# Altium footprint library buffer-level-shifter.PcbLib: 2 footprints
Each footprint in its own frame and in the unit in brackets; x right, y up, seen from the top. Pads: shape width x height; smd on the part's side, far side on the other; paste and mask are expansions set on the pad; w line width, h text height; cw(c..) or ccw(c..) is an arc to the next point about the centre after c.
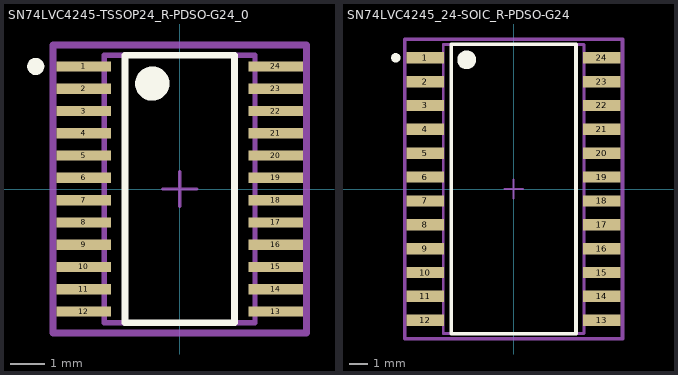
[diagram p0: the footprints below, top view; thin cyan lines are the x and y axes]

## SN74LVC4245-TSSOP24_R-PDSO-G24_0 [mm] "TSSOP24"
pads (24):
  rect 1.6x0.3 smd paste-1000 mask+0: 1(-2.8,3.575) 2(-2.8,2.925) 3(-2.8,2.275) 4(-2.8,1.625) 5(-2.8,0.975) 6(-2.8,0.325) 7(-2.8,-0.325) 8(-2.8,-0.975) 9(-2.8,-1.625) 10(-2.8,-2.275) 11(-2.8,-2.925) 12(-2.8,-3.575) 13(2.8,-3.575) 14(2.8,-2.925) 15(2.8,-2.275) 16(2.8,-1.625) 17(2.8,-0.975) 18(2.8,-0.325) 19(2.8,0.325) 20(2.8,0.975) 21(2.8,1.625) 22(2.8,2.275) 23(2.8,2.925) 24(2.8,3.575)
Top Overlay:
  circle w0.25: c-4.2,3.575 r0.125
  circle w0.5: c-0.8,3.075 r0.25
  lines w0.2: -1.6,-3.9 1.6,-3.9 1.6,3.9 -1.6,3.9 -1.6,-3.9
Top Paste:
  rectangle: 2.025,-3.7 3.575,-3.45
  rectangle: 2.025,-3.05 3.575,-2.8
  rectangle: 2.025,-2.4 3.575,-2.15
  rectangle: 2.025,-1.75 3.575,-1.5
  rectangle: 2.025,-1.1 3.575,-0.85
  rectangle: 2.025,-0.45 3.575,-0.2
  rectangle: 2.025,0.2 3.575,0.45
  rectangle: 2.025,0.85 3.575,1.1
  rectangle: 2.025,1.5 3.575,1.75
  rectangle: 2.025,2.15 3.575,2.4
  rectangle: 2.025,2.8 3.575,3.05
  rectangle: 2.025,3.45 3.575,3.7
  rectangle: -3.575,-3.7 -2.025,-3.45
  rectangle: -3.575,-3.05 -2.025,-2.8
  rectangle: -3.575,-2.4 -2.025,-2.15
  rectangle: -3.575,-1.75 -2.025,-1.5
  rectangle: -3.575,-1.1 -2.025,-0.85
  rectangle: -3.575,-0.45 -2.025,-0.2
  rectangle: -3.575,0.2 -2.025,0.45
  rectangle: -3.575,0.85 -2.025,1.1
  rectangle: -3.575,1.5 -2.025,1.75
  rectangle: -3.575,2.15 -2.025,2.4
  rectangle: -3.575,2.8 -2.025,3.05
  rectangle: -3.575,3.45 -2.025,3.7
Mechanical 10:
  lines w0.2: -3.7,-4.2 3.7,-4.2 3.7,4.2 -3.7,4.2 -3.7,-4.2
  text ".Designator" at 0,0 h1
Mechanical 12:
  lines w0.15: -2.2,-3.9 2.2,-3.9 2.2,3.9 -2.2,3.9 -2.2,-3.9
Mechanical 15:
  lines w0.1: -0.5,0 0.5,0 -0.5,0 ; 0,-0.5 0,0.5 0,-0.5
  lines w0.2: -3.7,-4.2 3.7,-4.2 3.7,4.2 -3.7,4.2 -3.7,-4.2
3D body "IC_Texas_Instruments_SN74LVC4245APW_eec.STEP": height 0.25, standoff 0, extent -3.7,-4.2 3.7,4.2

## SN74LVC4245_24-SOIC_R-PDSO-G24 [mm] "24-SOIC"
height 1.2
pads (24):
  rect 2x0.6 smd paste-1000 mask+0: 1(-4.7,6.985) 2(-4.7,5.715) 3(-4.7,4.445) 4(-4.7,3.175) 5(-4.7,1.905) 6(-4.7,0.635) 7(-4.7,-0.635) 8(-4.7,-1.905) 9(-4.7,-3.175) 10(-4.7,-4.445) 11(-4.7,-5.715) 12(-4.7,-6.985) 13(4.7,-6.985) 14(4.7,-5.715) 15(4.7,-4.445) 16(4.7,-3.175) 17(4.7,-1.905) 18(4.7,-0.635) 19(4.7,0.635) 20(4.7,1.905) 21(4.7,3.175) 22(4.7,4.445) 23(4.7,5.715) 24(4.7,6.985)
Top Overlay:
  circle w0.25: c-6.275,6.985 r0.125
  circle w0.5: c-2.5,6.875 r0.25
  lines w0.2: -3.325,-7.7 -3.325,7.7 3.325,7.7 3.325,-7.7 -3.325,-7.7
Top Paste:
  rectangle: -5.675,6.71 -3.725,7.26
  rectangle: -5.675,5.44 -3.725,5.99
  rectangle: -5.675,4.17 -3.725,4.72
  rectangle: -5.675,2.9 -3.725,3.45
  rectangle: -5.675,1.63 -3.725,2.18
  rectangle: -5.675,0.36 -3.725,0.91
  rectangle: -5.675,-0.91 -3.725,-0.36
  rectangle: -5.675,-2.18 -3.725,-1.63
  rectangle: -5.675,-3.45 -3.725,-2.9
  rectangle: -5.675,-4.72 -3.725,-4.17
  rectangle: -5.675,-5.99 -3.725,-5.44
  rectangle: -5.675,-7.26 -3.725,-6.71
  rectangle: 3.725,6.71 5.675,7.26
  rectangle: 3.725,5.44 5.675,5.99
  rectangle: 3.725,4.17 5.675,4.72
  rectangle: 3.725,2.9 5.675,3.45
  rectangle: 3.725,1.63 5.675,2.18
  rectangle: 3.725,0.36 5.675,0.91
  rectangle: 3.725,-0.91 5.675,-0.36
  rectangle: 3.725,-2.18 5.675,-1.63
  rectangle: 3.725,-3.45 5.675,-2.9
  rectangle: 3.725,-4.72 5.675,-4.17
  rectangle: 3.725,-5.99 5.675,-5.44
  rectangle: 3.725,-7.26 5.675,-6.71
Mechanical 10:
  lines w0.2: -5.8,-7.975 -5.8,7.975 5.8,7.975 5.8,-7.975 -5.8,-7.975
  text ".Designator" at 0,0 h1
Mechanical 12:
  lines w0.15: -3.75,-7.7 -3.75,7.7 3.75,7.7 3.75,-7.7 -3.75,-7.7
Mechanical 15:
  lines w0.1: -0.5,0 0.5,0 ; 0,-0.5 0,0.5
  lines w0.2: -5.8,-7.975 -5.8,7.975 5.8,7.975 5.8,-7.975 -5.8,-7.975
3D body "SN74LVC4245ADWR_eec.STEP": height 2.64, standoff -0.01, extent -5.367,-7.797 5.354,7.803